# EAGLE library part DPDT (library mb_switches)
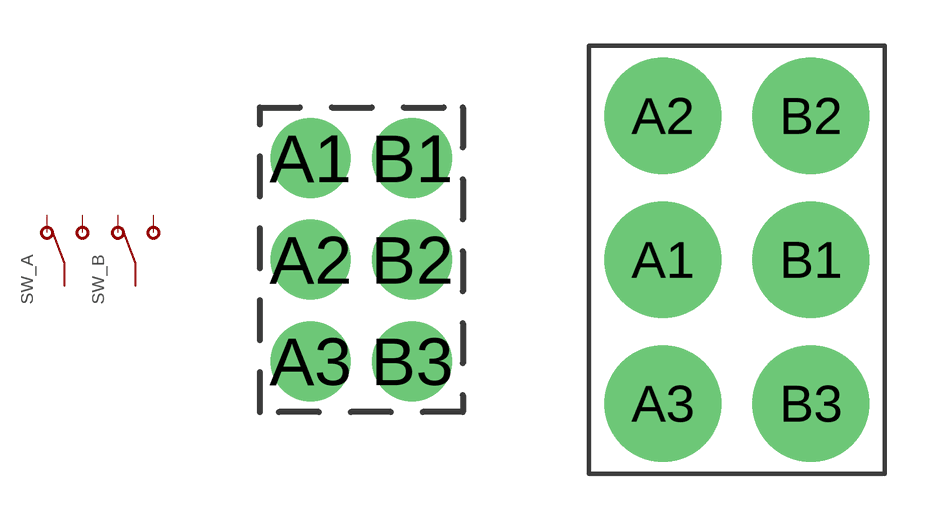
[diagram p2: symbol with the pads of DPDT; footprints DPDT, DPDT_PCB]

Designator prefix SW; gates _A=SPDT _B=SPDT

## DPDT  [DPDT]
A1  _A:1  pas
A2  _A:2  pas
A3  _A:3  pas
B1  _B:1  pas
B2  _B:2  pas
B3  _B:3  pas

## DPDTDPDT_2  [DPDT_PCB]
A1  _A:2  pas
A2  _A:1  pas
A3  _A:3  pas
B1  _B:2  pas
B2  _B:1  pas
B3  _B:3  pas

## Footprint DPDT (pad centres in mm)
drill 1 pad 2: A1 -1.27,2.54; A2 -1.27,0; A3 -1.27,-2.54; B1 1.27,2.54; B2 1.27,0; B3 1.27,-2.54

## Footprint DPDT_PCB (pad centres in mm)
drill 2.8 pad 3.81: A1 -2.413,0; A2 -2.413,4.699; A3 -2.413,-4.699; B1 2.413,0; B2 2.413,4.699; B3 2.413,-4.699